# Altium schematic symbol library jlink072.SCHLIB: 16 symbols
Pins are listed as number, name and electrical type; pins without a type are passive.

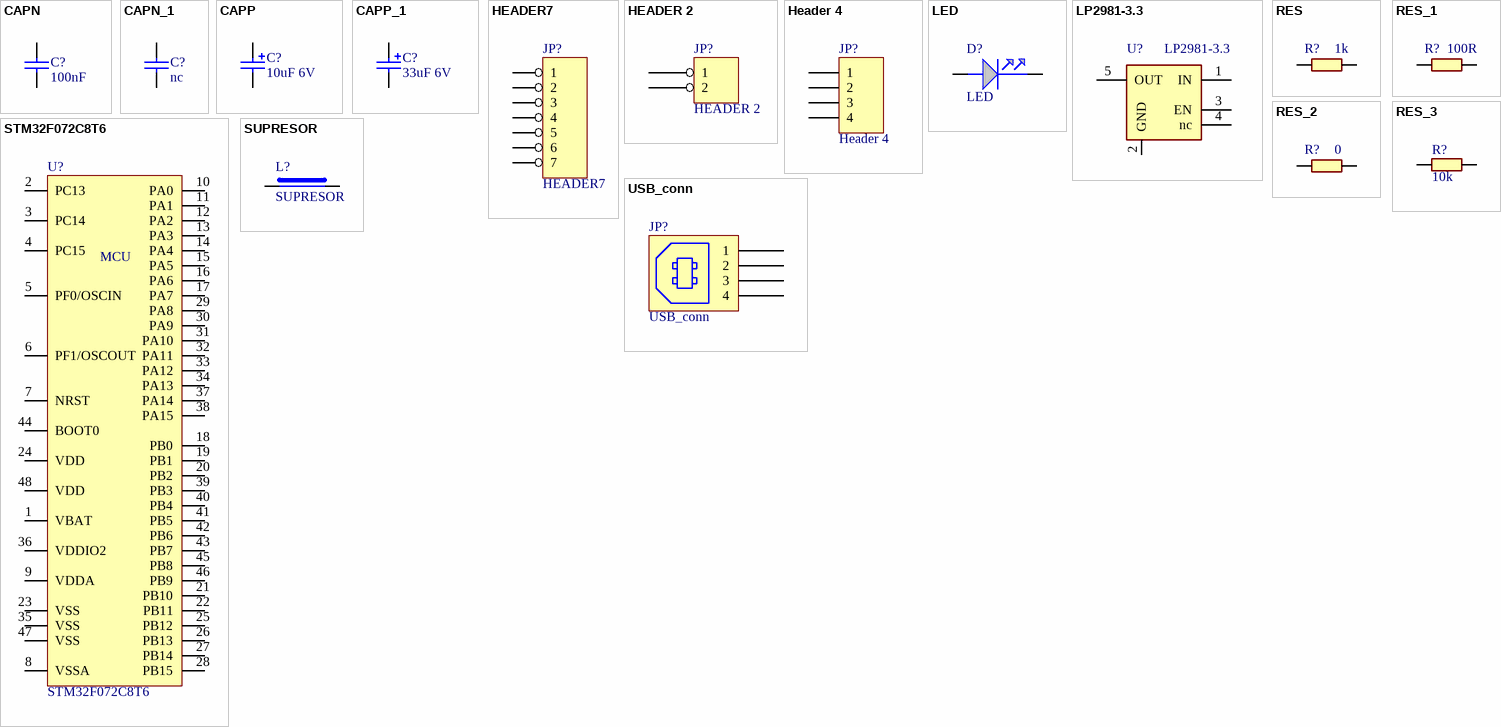
[diagram p0: symbols CAPN to USB_conn]

## CAPN
designator C?, comment 100nF
Part Field 1: Hitano; Part Field 7: 10%; Part Field 8: 50V; Part Field 9: X7R
footprint C-0603
footprint C-0805
footprint C-1206
pins: 1, 2

## CAPN_1
designator C?, comment nc
Part Field 1: Hitano; Part Field 7: 10%; Part Field 8: 50V; Part Field 9: X7R
footprint C-0603
footprint C-0805
footprint C-1206
pins: 1, 2

## CAPP
designator C?, comment 10uF 6V
Part Field 1: *; Part Field 7: *; Part Field 8: *; Part Field 9: *
footprint 3216
footprint 3518
footprint 3527
footprint TANTAL-A
pins: 1, 2

## CAPP_1
designator C?, comment 33uF 6V
Part Field 1: *; Part Field 7: *; Part Field 8: *; Part Field 9: *
footprint 3216
footprint 3518
footprint 3527
footprint TANTAL-A
footprint TANTAL-B
pins: 1, 2

## HEADER7
designator JP?
Вид: Роз'єм; *: *
footprint PLS1-7 (Header, Vertical, 2.54 mm pitch; 0.70 mm lead width, 7 pins, 1 row, 7 pins per row, 16.51 mm L X 2.54 mm W X 7.54 mm H body)
pins: 1, 2, 3, 4, 5, 6, 7

## HEADER 2
designator JP?
Вид: Роз'єм; *: *
footprint PLS1-2 (Header, Vertical, 2.54 mm pitch; 0.64 mm lead width, 2 pins, 1 row, 2 pins per row, 5.08 mm L X 2.54 mm W X 8.54 mm H body)
footprint PLS1-2R (Header, Vertical, 2.54 mm pitch; 0.64 mm lead width, 2 pins, 1 row, 2 pins per row, 5.08 mm L X 2.54 mm W X 8.54 mm H body)
pins: 1, 2

## Header 4
designator JP?
Header, 4-Pin; LatestRevisionDate: 17-Jul-2002; LatestRevisionNote: Re-released for DXP Platform.; Publisher: Altium Limited
footprint HDR1X4 (Connector; Header; 4 Position)
signal-integrity model Connector
footprint HDR1x4_SS
footprint PLS1-4 (Header, Vertical, 2.54 mm pitch; 0.70 mm lead width, 4 pins, 1 row, 4 pins per row, 8.89 mm L X 2.54 mm W X 7.54 mm H body)
pins: 1, 2, 3, 4

## LED
designator D?
footprint LED-0805
footprint LED-DIP-1
footprint LED-PLANE
pins: A ANODE, K CATHODE

## LP2981-3.3
designator U?
footprint SOT-23-5
pins: 1 IN, 2 GND, 3 EN, 4 nc, 5 OUT

## RES
designator R?, comment 1k
Part Field 1: UniOhm; Part Field 7: 5%
footprint R-0603
footprint R-0805
footprint R-1206
pins: 1, 2

## RES_1
designator R?, comment 100R
Part Field 1: UniOhm; Part Field 7: 5%
footprint R-0603
footprint R-0805
footprint R-1206
pins: 1, 2

## RES_2
designator R?, comment 0
Part Field 1: UniOhm; Part Field 7: 5%
footprint R-0603
footprint R-0805
footprint R-1206
pins: 1, 2

## RES_3
designator R?, comment 10k
Part Field 1: UniOhm; Part Field 7: 5%
footprint R-0603
footprint R-0805
footprint R-1206
pins: 1, 2

## STM32F072C8T6
designator U?
footprint LQFP48 (48 pins 0.5 pitch)
pins: 1 VBAT, 2 PC13, 3 PC14, 4 PC15, 5 PF0/OSCIN, 6 PF1/OSCOUT, 7 NRST, 8 VSSA, 9 VDDA, 10 PA0, 11 PA1, 12 PA2, 13 PA3, 14 PA4, 15 PA5, 16 PA6, 17 PA7, 18 PB0, 19 PB1, 20 PB2, 21 PB10, 22 PB11, 23 VSS, 24 VDD, 25 PB12, 26 PB13, 27 PB14, 28 PB15, 29 PA8, 30 PA9, 31 PA10, 32 PA11, 33 PA12, 34 PA13, 35 VSS, 36 VDDIO2, 37 PA14, 38 PA15, 39 PB3, 40 PB4, 41 PB5, 42 PB6, 43 PB7, 44 BOOT0, 45 PB8, 46 PB9, 47 VSS, 48 VDD
text: MCU

## SUPRESOR
designator L?
Примечание: *; Производитель: *
footprint L-1210
footprint LEADED
footprint R-1206
pins: 1, 2

## USB_conn
designator JP?
USB_connector
footprint CU02SAH0000 (USB_connector)
footprint USB(BR)
footprint USB_A_M (thru-hole mounted USB-A jack)
footprint USB_A_M (thru-hole mounted USB-A jack)
footprint USB_A_M_SMD (usb male smd mount)
pins: 1, 2, 3, 4